# EAGLE library part XC9572 (library Traficon)
XC9572 In-System Programmable CPLD
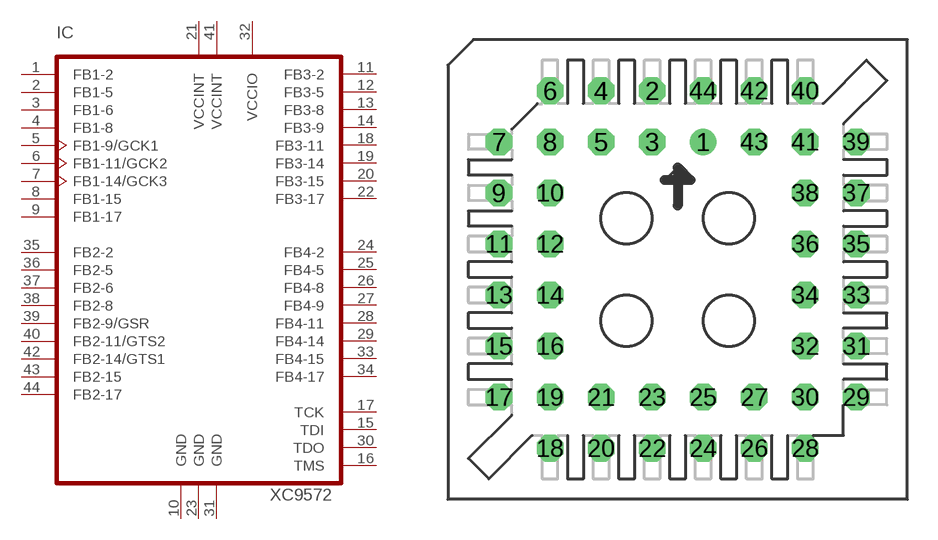
[diagram p87: symbol with the pads of PLCC-S44; footprint PLCC-S44]

Designator prefix IC

## XC9572-15PC44C  [PLCC-S44]
1  FB1-2
2  FB1-5
3  FB1-6
4  FB1-8
5  FB1-9/GCK1
6  FB1-11/GCK2
7  FB1-14/GCK3
8  FB1-15
9  FB1-17
10  GND
11  FB3-2
12  FB3-5
13  FB3-8
14  FB3-9
15  TDI
16  TMS
17  TCK
18  FB3-11
19  FB3-14
20  FB3-15
21  VCCINT
22  FB3-17
23  GND
24  FB4-2
25  FB4-5
26  FB4-8
27  FB4-9
28  FB4-11
29  FB4-14
30  TDO
31  GND
32  VCCIO
33  FB4-15
34  FB4-17
35  FB2-2
36  FB2-5
37  FB2-6
38  FB2-8
39  FB2-9/GSR
40  FB2-11/GTS2
41  VCCINT
42  FB2-14/GTS1
43  FB2-15
44  FB2-17

## Footprint PLCC-S44 (pad centres in mm)
Plastic Leaded Chip Carrier Socked
drill 0.813 round: 1 1.27,6.35
drill 0.813 octagon: 2 -1.27,8.89; 3 -1.27,6.35; 4 -3.81,8.89; 5 -3.81,6.35; 6 -6.35,8.89; 7 -8.89,6.35; 8 -6.35,6.35; 9 -8.89,3.81; 10 -6.35,3.81; 11 -8.89,1.27; 12 -6.35,1.27; 13 -8.89,-1.27; 14 -6.35,-1.27; 15 -8.89,-3.81; 16 -6.35,-3.81; 17 -8.89,-6.35; 18 -6.35,-8.89; 19 -6.35,-6.35; 20 -3.81,-8.89; 21 -3.81,-6.35; 22 -1.27,-8.89; 23 -1.27,-6.35; 24 1.27,-8.89; 25 1.27,-6.35; 26 3.81,-8.89; 27 3.81,-6.35; 28 6.35,-8.89; 29 8.89,-6.35; 30 6.35,-6.35; 31 8.89,-3.81; 32 6.35,-3.81; 33 8.89,-1.27; 34 6.35,-1.27; 35 8.89,1.27; 36 6.35,1.27; 37 8.89,3.81; 38 6.35,3.81; 39 8.89,6.35; 40 6.35,8.89; 41 6.35,6.35; 42 3.81,8.89; 43 3.81,6.35; 44 1.27,8.89